# Altium schematic symbol library ABLS2-8.000MHZ-D4Y-T.SchLib: 1 symbol
Pins are listed as number, name and electrical type; pins without a type are passive.

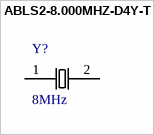
[diagram p0: symbol ABLS2-8.000MHZ-D4Y-T]

## ABLS2-8.000MHZ-D4Y-T
designator Y?, comment 8MHz
Crystal 8MHz ABLS2-8.000MHZ-D4Y-T; MF: Abracon; Availability: Unavailable; SnapEDA_Link: https://www.snapeda.com/parts/ABLS2-8.000MHZ-D4Y-T/Abracon%20LLC/view-part/?ref=snap; MP: ABLS2-8.000MHZ-D4Y-T; Price: None; Package: HC49/US Abracon; Value: *; Supplier 1: Digi-Key; Supplier Part Number 1: 535-9864-1-ND
footprint *XTAL1140X470X330
pins: 1, 2